# Altium integrated library Renesas Microcontroller H8S.IntLib: 670 symbols (part 70 of 70)
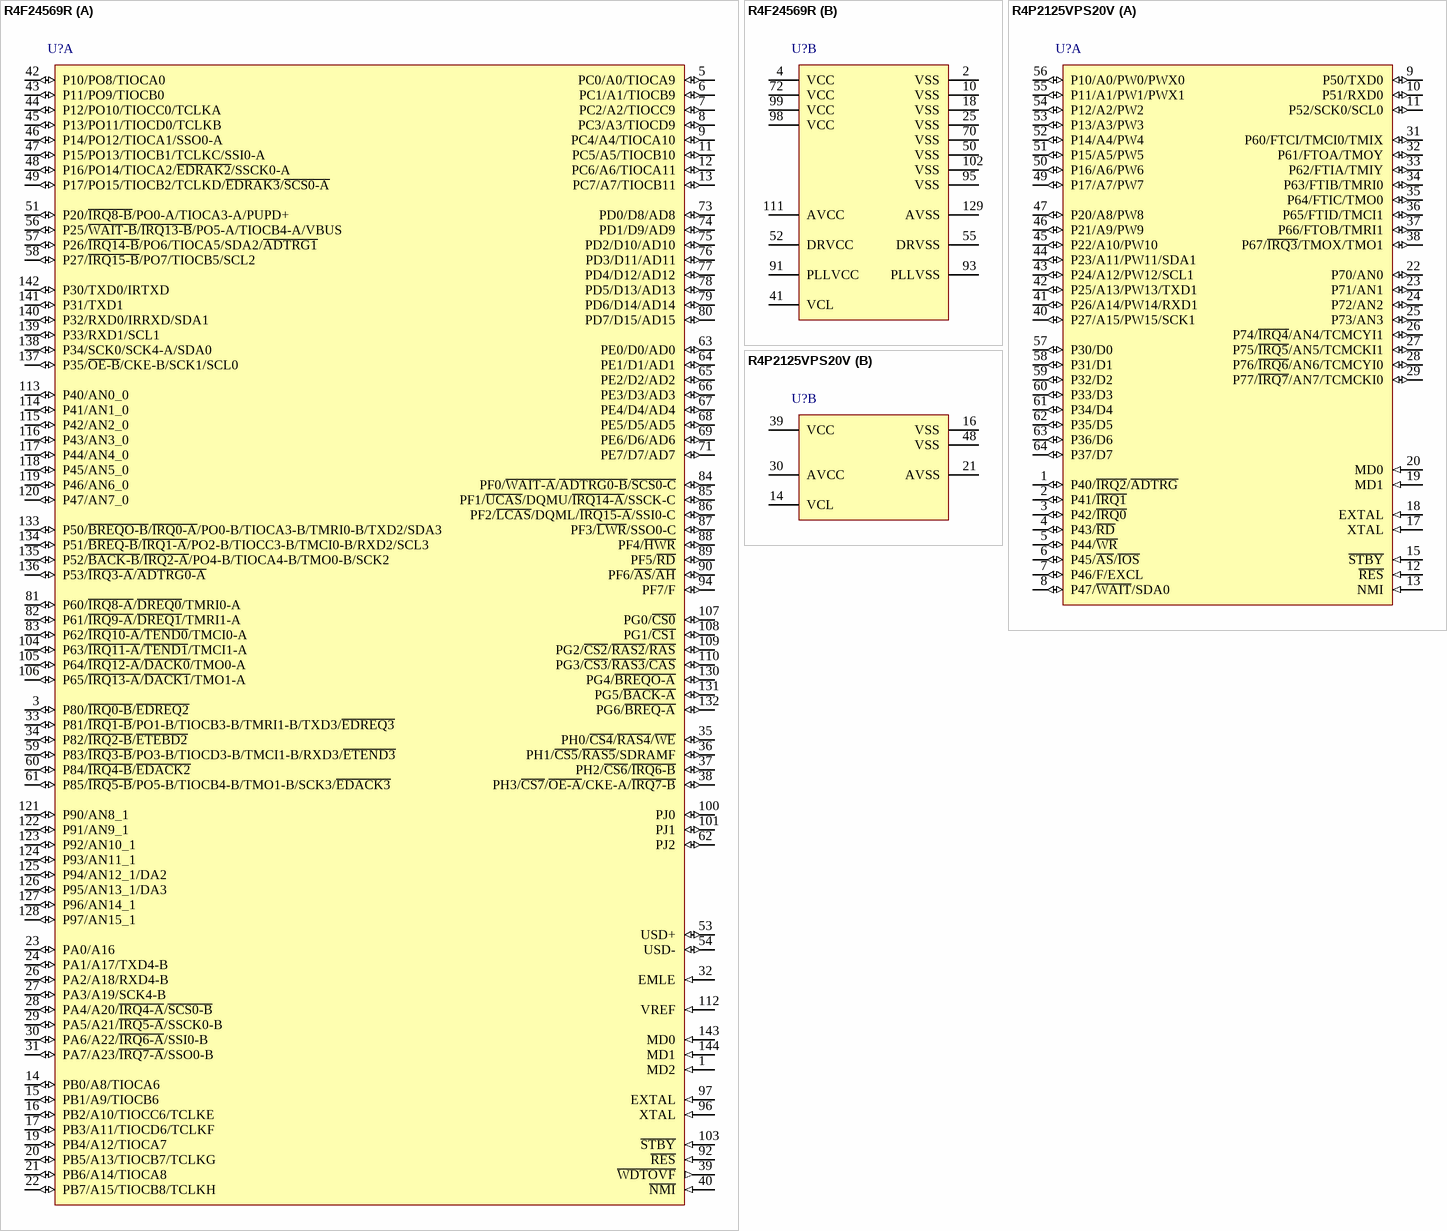
[diagram p379: symbols R4F24569R to R4P2125VPS20V]

## R4P2125VPS20V
designator U?
One Time PROM H8S/2100 Series, 2125 Group MCU, 512K ROM, 8K RAM, DP-64S Pkg; Published: 28-Aug-2009; DatasheetVersion: Rev.1.00, Sep-2006; PackageVersion: Sep-2005; PackageReference: PRDP0064BB-A; Publisher: Altium Limited; PackageDescription: 64-Pin Plastic Shrink DIP, 57.6 x 17 mm Body, 19.05 mm Row Spacing , 1.778 mm Pitch; Code_JEITA: P-SDIP64-17x57.6-1.78; ComponentLink1Description: Manufacturer Link; ComponentLink1URL: http://sg.renesas.com/fmwk.jsp?cnt=h8s_family_landing.jsp&fp=/products/mpumcu/h8s_family/; ComponentLink2Description: Datasheet; ComponentLink2URL: http://documentation.renesas.com/eng/products/mpumcu/rej09b0310_h8s2125hm.pdf; ComponentLink3Description: Packaging Specification; ComponentLink3URL: http://sg.renesas.com/media/products/common_info/package/pdf/ic/code/prdp0064bb_a.pdf
footprint PRDP0064BB-A (DIP, 64-Leads, Row Spacing 19.05mm, Pitch 1.778mm, Body 58.19x17.05mm)
part A pins: 1 P40/~{IRQ2}/~{ADTRG} (io), 2 P41/~{IRQ1} (io), 3 P42/~{IRQ0} (io), 4 P43/~{RD} (io), 5 P44/~{WR} (io), 6 P45/~{AS}/~{IOS} (io), 7 P46/F/EXCL (io), 8 P47/~{WAIT}/SDA0 (io), 9 P50/TXD0 (io), 10 P51/RXD0 (io), 11 P52/SCK0/SCL0 (io), 12 ~{RES} (in), 13 NMI (in), 15 ~{STBY} (in), 17 XTAL (in), 18 EXTAL (in), 19 MD1 (in), 20 MD0 (in), 22 P70/AN0 (io), 23 P71/AN1 (io), 24 P72/AN2 (io), 25 P73/AN3 (io), 26 P74/~{IRQ4}/AN4/TCMCYI1 (io), 27 P75/~{IRQ5}/AN5/TCMCKI1 (io), 28 P76/~{IRQ6}/AN6/TCMCYI0 (io), 29 P77/~{IRQ7}/AN7/TCMCKI0 (io), 31 P60/FTCI/TMCI0/TMIX (io), 32 P61/FTOA/TMOY (io), 33 P62/FTIA/TMIY (io), 34 P63/FTIB/TMRI0 (io), 35 P64/FTIC/TMO0 (io), 36 P65/FTID/TMCI1 (io), 37 P66/FTOB/TMRI1 (io), 38 P67/~{IRQ3}/TMOX/TMO1 (io), 40 P27/A15/PW15/SCK1 (io), 41 P26/A14/PW14/RXD1 (io), 42 P25/A13/PW13/TXD1 (io), 43 P24/A12/PW12/SCL1 (io), 44 P23/A11/PW11/SDA1 (io), 45 P22/A10/PW10 (io), 46 P21/A9/PW9 (io), 47 P20/A8/PW8 (io), 49 P17/A7/PW7 (io), 50 P16/A6/PW6 (io), 51 P15/A5/PW5 (io), 52 P14/A4/PW4 (io), 53 P13/A3/PW3 (io), 54 P12/A2/PW2 (io), 55 P11/A1/PW1/PWX1 (io), 56 P10/A0/PW0/PWX0 (io), 57 P30/D0 (io), 58 P31/D1 (io), 59 P32/D2 (io), 60 P33/D3 (io), 61 P34/D4 (io), 62 P35/D5 (io), 63 P36/D6 (io), 64 P37/D7 (io)
part B pins: 14 VCL, 16 VSS (power), 21 AVSS (power), 30 AVCC (power), 39 VCC (power), 48 VSS (power)

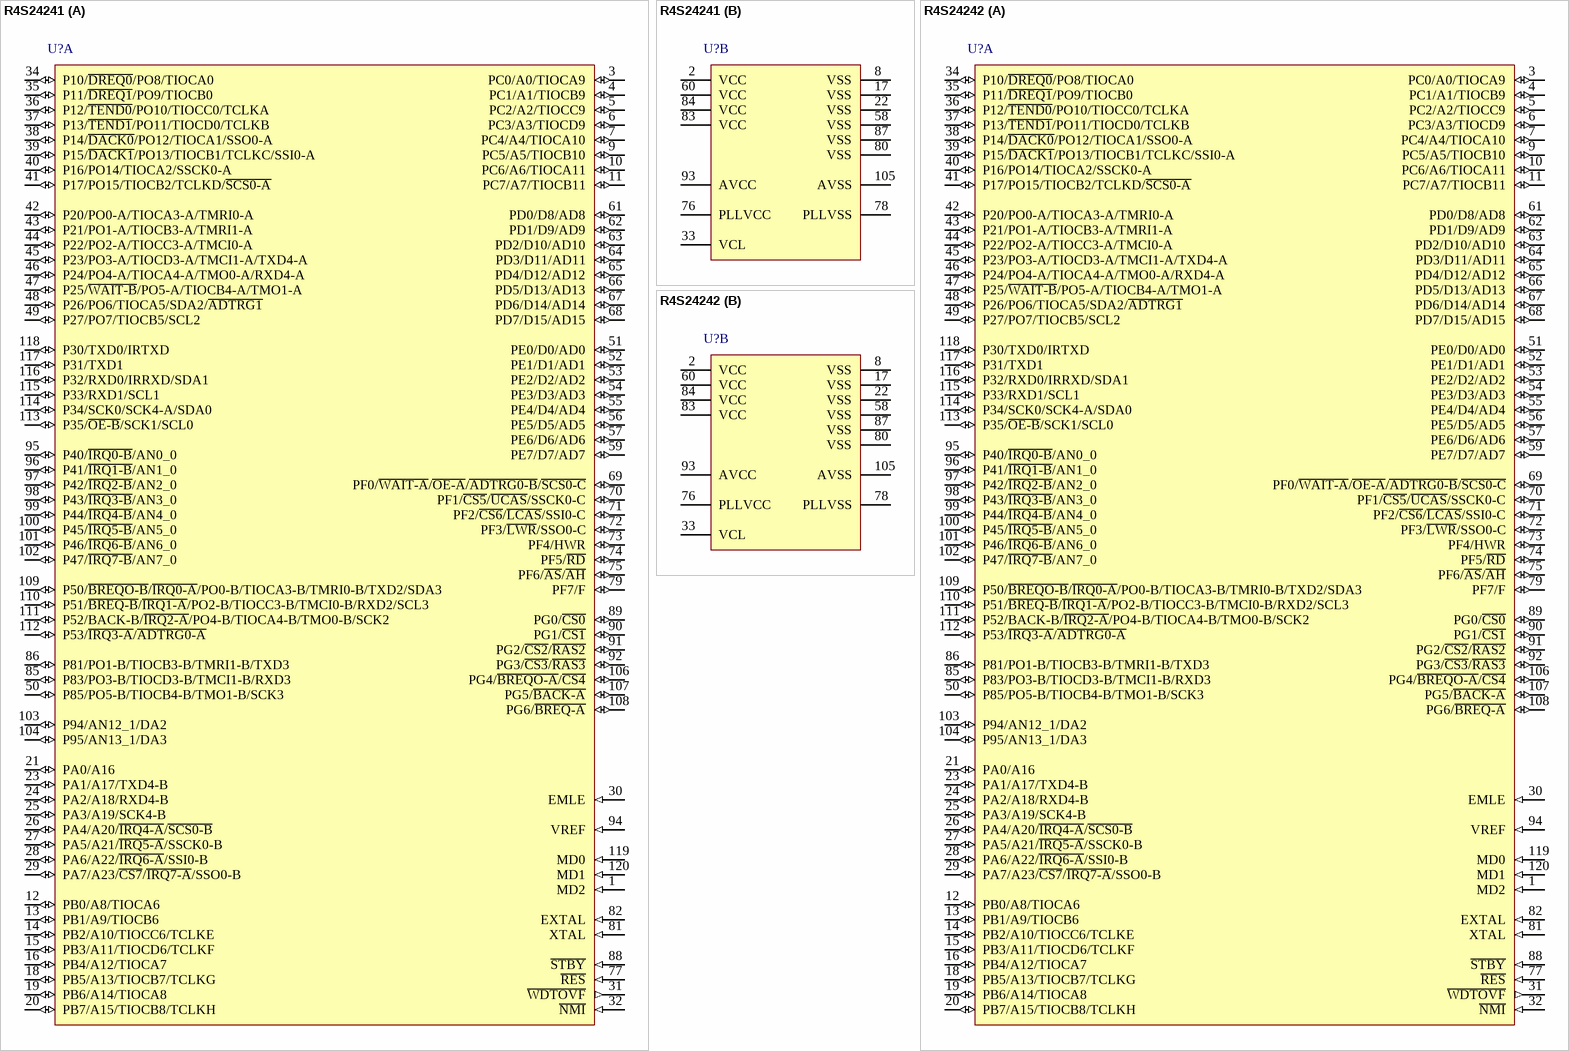
[diagram p240: symbols R4S24241 to R4S24242]

## R4S24241
designator U?
ROMless H8S/2400 Series, 2424 Group MCU, 48K RAM; Published: 28-Aug-2009; DatasheetVersion: Rev.2.00, Apr-2009; PackageVersion: Sep-2005; PackageReference: PLQP0120LA-A; Publisher: Altium Limited; PackageDescription: 120-Pin Plastic Low Profile QFP, 14 x 14 x 1.4 mm Body, 0.4 mm Pitch; Code_JEITA: P-LQFP120-14x14-0.40; ComponentLink1Description: Manufacturer Link; ComponentLink1URL: http://sg.renesas.com/fmwk.jsp?cnt=h8s_family_landing.jsp&fp=/products/mpumcu/h8s_family/; ComponentLink2Description: Datasheet; ComponentLink2URL: http://documentation.renesas.com/eng/products/mpumcu/rej09b0466_h8s2426hm.pdf; ComponentLink3Description: Packaging Specification; ComponentLink3URL: http://sg.renesas.com/media/products/common_info/package/pdf/ic/code/plqp0120la_a.pdf
footprint PLQP0120LA-A_N (Shrink QFP, 120-Leads, Body 14x14mm, Pitch 0.4mm, IPC Medium Density)
footprint PLQP0120LA-A_L (Shrink QFP, 120-Leads, Body 14x14mm, Pitch 0.4mm, IPC High Density)
footprint PLQP0120LA-A_M (Shrink QFP, 120-Leads, Body 14x14mm, Pitch 0.4mm, IPC Low Density)
part A pins: 1 MD2 (in), 3 PC0/A0/TIOCA9 (io), 4 PC1/A1/TIOCB9 (io), 5 PC2/A2/TIOCC9 (io), 6 PC3/A3/TIOCD9 (io), 7 PC4/A4/TIOCA10 (io), 9 PC5/A5/TIOCB10 (io), 10 PC6/A6/TIOCA11 (io), 11 PC7/A7/TIOCB11 (io), 12 PB0/A8/TIOCA6 (io), 13 PB1/A9/TIOCB6 (io), 14 PB2/A10/TIOCC6/TCLKE (io), 15 PB3/A11/TIOCD6/TCLKF (io), 16 PB4/A12/TIOCA7 (io), 18 PB5/A13/TIOCB7/TCLKG (io), 19 PB6/A14/TIOCA8 (io), 20 PB7/A15/TIOCB8/TCLKH (io), 21 PA0/A16 (io), 23 PA1/A17/TXD4-B (io), 24 PA2/A18/RXD4-B (io), 25 PA3/A19/SCK4-B (io), 26 PA4/A20/~{IRQ4-A}/~{SCS0-B} (io), 27 PA5/A21/~{IRQ5-A}/SSCK0-B (io), 28 PA6/A22/~{IRQ6-A}/SSI0-B (io), 29 PA7/A23/~{CS7}/~{IRQ7-A}/SSO0-B (io), 30 EMLE (in), 31 ~{WDTOVF} (out), 32 ~{NMI} (in), 34 P10/~{DREQ0}/PO8/TIOCA0 (io), 35 P11/~{DREQ1}/PO9/TIOCB0 (io), 36 P12/~{TEND0}/PO10/TIOCC0/TCLKA (io), 37 P13/~{TEND1}/PO11/TIOCD0/TCLKB (io), 38 P14/~{DACK0}/PO12/TIOCA1/SSO0-A (io), 39 P15/~{DACK1}/PO13/TIOCB1/TCLKC/SSI0-A (io), 40 P16/PO14/TIOCA2/SSCK0-A (io), 41 P17/PO15/TIOCB2/TCLKD/~{SCS0-A} (io), 42 P20/PO0-A/TIOCA3-A/TMRI0-A (io), 43 P21/PO1-A/TIOCB3-A/TMRI1-A (io), 44 P22/PO2-A/TIOCC3-A/TMCI0-A (io), 45 P23/PO3-A/TIOCD3-A/TMCI1-A/TXD4-A (io), 46 P24/PO4-A/TIOCA4-A/TMO0-A/RXD4-A (io), 47 P25/~{WAIT-B}/PO5-A/TIOCB4-A/TMO1-A (io), 48 P26/PO6/TIOCA5/SDA2/~{ADTRG1} (io), 49 P27/PO7/TIOCB5/SCL2 (io), 50 P85/PO5-B/TIOCB4-B/TMO1-B/SCK3 (io), 51 PE0/D0/AD0 (io), 52 PE1/D1/AD1 (io), 53 PE2/D2/AD2 (io), 54 PE3/D3/AD3 (io), 55 PE4/D4/AD4 (io), 56 PE5/D5/AD5 (io), 57 PE6/D6/AD6 (io), 59 PE7/D7/AD7 (io), 61 PD0/D8/AD8 (io), 62 PD1/D9/AD9 (io), 63 PD2/D10/AD10 (io), 64 PD3/D11/AD11 (io), 65 PD4/D12/AD12 (io), 66 PD5/D13/AD13 (io), 67 PD6/D14/AD14 (io), 68 PD7/D15/AD15 (io), 69 PF0/~{WAIT-A}/~{OE-A}/~{ADTRG0-B}/~{SCS0-C} (io), 70 PF1/~{CS5}/~{UCAS}/SSCK0-C (io), 71 PF2/~{CS6}/~{LCAS}/SSI0-C (io), 72 PF3/~{LWR}/SSO0-C (io), 73 PF4/HWR (io), 74 PF5/~{RD} (io), 75 PF6/~{AS}/~{AH} (io), 77 ~{RES} (in), 79 PF7/F (io), 81 XTAL (in), 82 EXTAL (in), 85 P83/PO3-B/TIOCD3-B/TMCI1-B/RXD3 (io), 86 P81/PO1-B/TIOCB3-B/TMRI1-B/TXD3 (io), 88 ~{STBY} (in), 89 PG0/~{CS0} (io), 90 PG1/~{CS1} (io), 91 PG2/~{CS2}/~{RAS2} (io), 92 PG3/~{CS3}/~{RAS3} (io), 94 VREF (in), 95 P40/~{IRQ0-B}/AN0_0 (io), 96 P41/~{IRQ1-B}/AN1_0 (io), 97 P42/~{IRQ2-B}/AN2_0 (io), 98 P43/~{IRQ3-B}/AN3_0 (io), 99 P44/~{IRQ4-B}/AN4_0 (io), 100 P45/~{IRQ5-B}/AN5_0 (io), 101 P46/~{IRQ6-B}/AN6_0 (io), 102 P47/~{IRQ7-B}/AN7_0 (io), 103 P94/AN12_1/DA2 (io), 104 P95/AN13_1/DA3 (io), 106 PG4/~{BREQO-A}/~{CS4} (io), 107 PG5/~{BACK-A} (io), 108 PG6/~{BREQ-A} (io), 109 P50/~{BREQO-B}/~{IRQ0-A}/PO0-B/TIOCA3-B/TMRI0-B/TXD2/SDA3 (io), 110 P51/~{BREQ-B}/~{IRQ1-A}/PO2-B/TIOCC3-B/TMCI0-B/RXD2/SCL3 (io), 111 P52/BACK-B/~{IRQ2-A}/PO4-B/TIOCA4-B/TMO0-B/SCK2 (io), 112 P53/~{IRQ3-A}/~{ADTRG0-A} (io), 113 P35/~{OE-B}/SCK1/SCL0 (io), 114 P34/SCK0/SCK4-A/SDA0 (io), 115 P33/RXD1/SCL1 (io), 116 P32/RXD0/IRRXD/SDA1 (io), 117 P31/TXD1 (io), 118 P30/TXD0/IRTXD (io), 119 MD0 (in), 120 MD1 (in)
part B pins: 2 VCC (power), 8 VSS (power), 17 VSS (power), 22 VSS (power), 33 VCL, 58 VSS (power), 60 VCC (power), 76 PLLVCC (power), 78 PLLVSS (power), 80 VSS (power), 83 VCC (power), 84 VCC (power), 87 VSS (power), 93 AVCC (power), 105 AVSS (power)

## R4S24242
designator U?
ROMless H8S/2400 Series, 2424 Group MCU, 64K RAM; Published: 28-Aug-2009; DatasheetVersion: Rev.2.00, Apr-2009; PackageVersion: Sep-2005; PackageReference: PLQP0120LA-A; Publisher: Altium Limited; PackageDescription: 120-Pin Plastic Low Profile QFP, 14 x 14 x 1.4 mm Body, 0.4 mm Pitch; Code_JEITA: P-LQFP120-14x14-0.40; ComponentLink1Description: Manufacturer Link; ComponentLink1URL: http://sg.renesas.com/fmwk.jsp?cnt=h8s_family_landing.jsp&fp=/products/mpumcu/h8s_family/; ComponentLink2Description: Datasheet; ComponentLink2URL: http://documentation.renesas.com/eng/products/mpumcu/rej09b0466_h8s2426hm.pdf; ComponentLink3Description: Packaging Specification; ComponentLink3URL: http://sg.renesas.com/media/products/common_info/package/pdf/ic/code/plqp0120la_a.pdf
footprint PLQP0120LA-A_N (Shrink QFP, 120-Leads, Body 14x14mm, Pitch 0.4mm, IPC Medium Density)
footprint PLQP0120LA-A_L (Shrink QFP, 120-Leads, Body 14x14mm, Pitch 0.4mm, IPC High Density)
footprint PLQP0120LA-A_M (Shrink QFP, 120-Leads, Body 14x14mm, Pitch 0.4mm, IPC Low Density)
part A pins: 1 MD2 (in), 3 PC0/A0/TIOCA9 (io), 4 PC1/A1/TIOCB9 (io), 5 PC2/A2/TIOCC9 (io), 6 PC3/A3/TIOCD9 (io), 7 PC4/A4/TIOCA10 (io), 9 PC5/A5/TIOCB10 (io), 10 PC6/A6/TIOCA11 (io), 11 PC7/A7/TIOCB11 (io), 12 PB0/A8/TIOCA6 (io), 13 PB1/A9/TIOCB6 (io), 14 PB2/A10/TIOCC6/TCLKE (io), 15 PB3/A11/TIOCD6/TCLKF (io), 16 PB4/A12/TIOCA7 (io), 18 PB5/A13/TIOCB7/TCLKG (io), 19 PB6/A14/TIOCA8 (io), 20 PB7/A15/TIOCB8/TCLKH (io), 21 PA0/A16 (io), 23 PA1/A17/TXD4-B (io), 24 PA2/A18/RXD4-B (io), 25 PA3/A19/SCK4-B (io), 26 PA4/A20/~{IRQ4-A}/~{SCS0-B} (io), 27 PA5/A21/~{IRQ5-A}/SSCK0-B (io), 28 PA6/A22/~{IRQ6-A}/SSI0-B (io), 29 PA7/A23/~{CS7}/~{IRQ7-A}/SSO0-B (io), 30 EMLE (in), 31 ~{WDTOVF} (out), 32 ~{NMI} (in), 34 P10/~{DREQ0}/PO8/TIOCA0 (io), 35 P11/~{DREQ1}/PO9/TIOCB0 (io), 36 P12/~{TEND0}/PO10/TIOCC0/TCLKA (io), 37 P13/~{TEND1}/PO11/TIOCD0/TCLKB (io), 38 P14/~{DACK0}/PO12/TIOCA1/SSO0-A (io), 39 P15/~{DACK1}/PO13/TIOCB1/TCLKC/SSI0-A (io), 40 P16/PO14/TIOCA2/SSCK0-A (io), 41 P17/PO15/TIOCB2/TCLKD/~{SCS0-A} (io), 42 P20/PO0-A/TIOCA3-A/TMRI0-A (io), 43 P21/PO1-A/TIOCB3-A/TMRI1-A (io), 44 P22/PO2-A/TIOCC3-A/TMCI0-A (io), 45 P23/PO3-A/TIOCD3-A/TMCI1-A/TXD4-A (io), 46 P24/PO4-A/TIOCA4-A/TMO0-A/RXD4-A (io), 47 P25/~{WAIT-B}/PO5-A/TIOCB4-A/TMO1-A (io), 48 P26/PO6/TIOCA5/SDA2/~{ADTRG1} (io), 49 P27/PO7/TIOCB5/SCL2 (io), 50 P85/PO5-B/TIOCB4-B/TMO1-B/SCK3 (io), 51 PE0/D0/AD0 (io), 52 PE1/D1/AD1 (io), 53 PE2/D2/AD2 (io), 54 PE3/D3/AD3 (io), 55 PE4/D4/AD4 (io), 56 PE5/D5/AD5 (io), 57 PE6/D6/AD6 (io), 59 PE7/D7/AD7 (io), 61 PD0/D8/AD8 (io), 62 PD1/D9/AD9 (io), 63 PD2/D10/AD10 (io), 64 PD3/D11/AD11 (io), 65 PD4/D12/AD12 (io), 66 PD5/D13/AD13 (io), 67 PD6/D14/AD14 (io), 68 PD7/D15/AD15 (io), 69 PF0/~{WAIT-A}/~{OE-A}/~{ADTRG0-B}/~{SCS0-C} (io), 70 PF1/~{CS5}/~{UCAS}/SSCK0-C (io), 71 PF2/~{CS6}/~{LCAS}/SSI0-C (io), 72 PF3/~{LWR}/SSO0-C (io), 73 PF4/HWR (io), 74 PF5/~{RD} (io), 75 PF6/~{AS}/~{AH} (io), 77 ~{RES} (in), 79 PF7/F (io), 81 XTAL (in), 82 EXTAL (in), 85 P83/PO3-B/TIOCD3-B/TMCI1-B/RXD3 (io), 86 P81/PO1-B/TIOCB3-B/TMRI1-B/TXD3 (io), 88 ~{STBY} (in), 89 PG0/~{CS0} (io), 90 PG1/~{CS1} (io), 91 PG2/~{CS2}/~{RAS2} (io), 92 PG3/~{CS3}/~{RAS3} (io), 94 VREF (in), 95 P40/~{IRQ0-B}/AN0_0 (io), 96 P41/~{IRQ1-B}/AN1_0 (io), 97 P42/~{IRQ2-B}/AN2_0 (io), 98 P43/~{IRQ3-B}/AN3_0 (io), 99 P44/~{IRQ4-B}/AN4_0 (io), 100 P45/~{IRQ5-B}/AN5_0 (io), 101 P46/~{IRQ6-B}/AN6_0 (io), 102 P47/~{IRQ7-B}/AN7_0 (io), 103 P94/AN12_1/DA2 (io), 104 P95/AN13_1/DA3 (io), 106 PG4/~{BREQO-A}/~{CS4} (io), 107 PG5/~{BACK-A} (io), 108 PG6/~{BREQ-A} (io), 109 P50/~{BREQO-B}/~{IRQ0-A}/PO0-B/TIOCA3-B/TMRI0-B/TXD2/SDA3 (io), 110 P51/~{BREQ-B}/~{IRQ1-A}/PO2-B/TIOCC3-B/TMCI0-B/RXD2/SCL3 (io), 111 P52/BACK-B/~{IRQ2-A}/PO4-B/TIOCA4-B/TMO0-B/SCK2 (io), 112 P53/~{IRQ3-A}/~{ADTRG0-A} (io), 113 P35/~{OE-B}/SCK1/SCL0 (io), 114 P34/SCK0/SCK4-A/SDA0 (io), 115 P33/RXD1/SCL1 (io), 116 P32/RXD0/IRRXD/SDA1 (io), 117 P31/TXD1 (io), 118 P30/TXD0/IRTXD (io), 119 MD0 (in), 120 MD1 (in)
part B pins: 2 VCC (power), 8 VSS (power), 17 VSS (power), 22 VSS (power), 33 VCL, 58 VSS (power), 60 VCC (power), 76 PLLVCC (power), 78 PLLVSS (power), 80 VSS (power), 83 VCC (power), 84 VCC (power), 87 VSS (power), 93 AVCC (power), 105 AVSS (power)

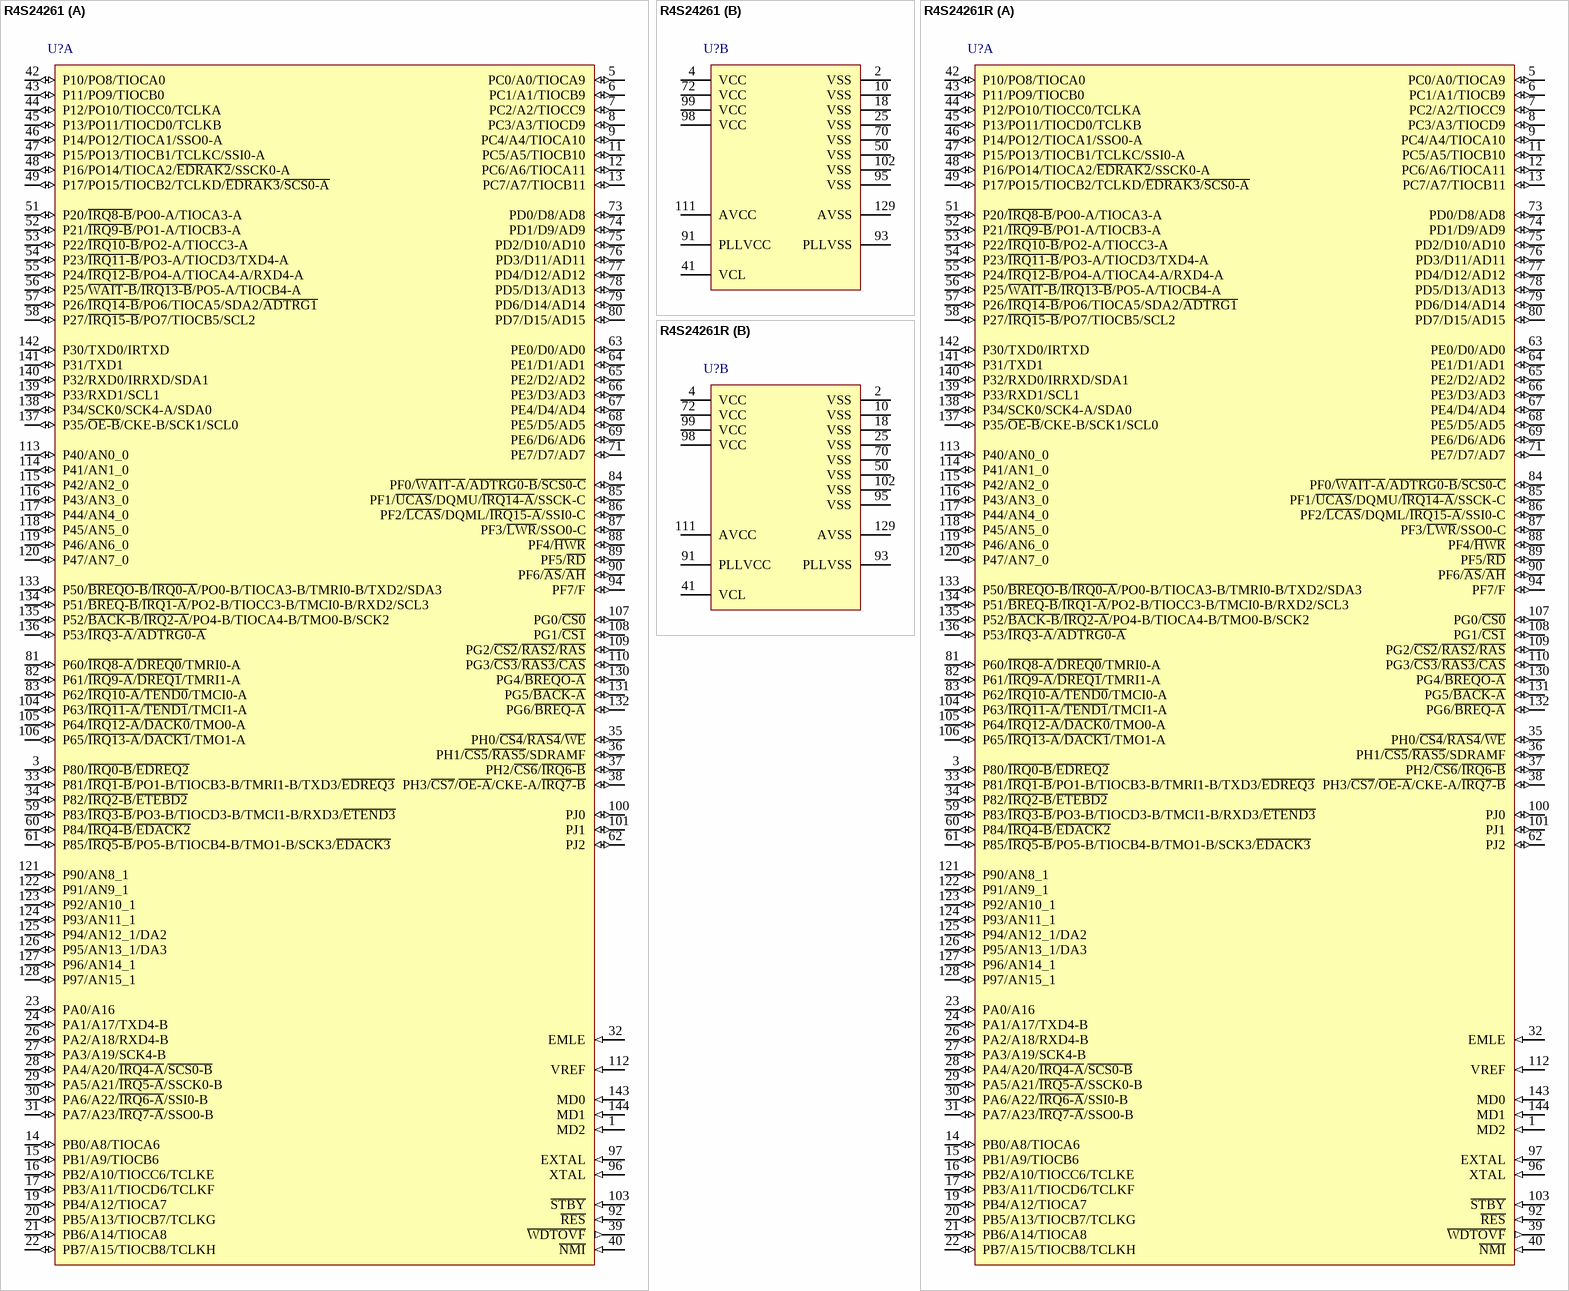
[diagram p241: symbols R4S24261 to R4S24261R]